# Altium footprint library National Semiconductor Amplifier.PcbLib: 108 footprints (part 5 of 7)
Each footprint in its own frame and in the unit in brackets; x right, y up, seen from the top. Pads: shape width x height; smd on the part's side, far side on the other; paste and mask are expansions set on the pad; w line width, h text height; cw(c..) or ccw(c..) is an arc to the next point about the centre after c.
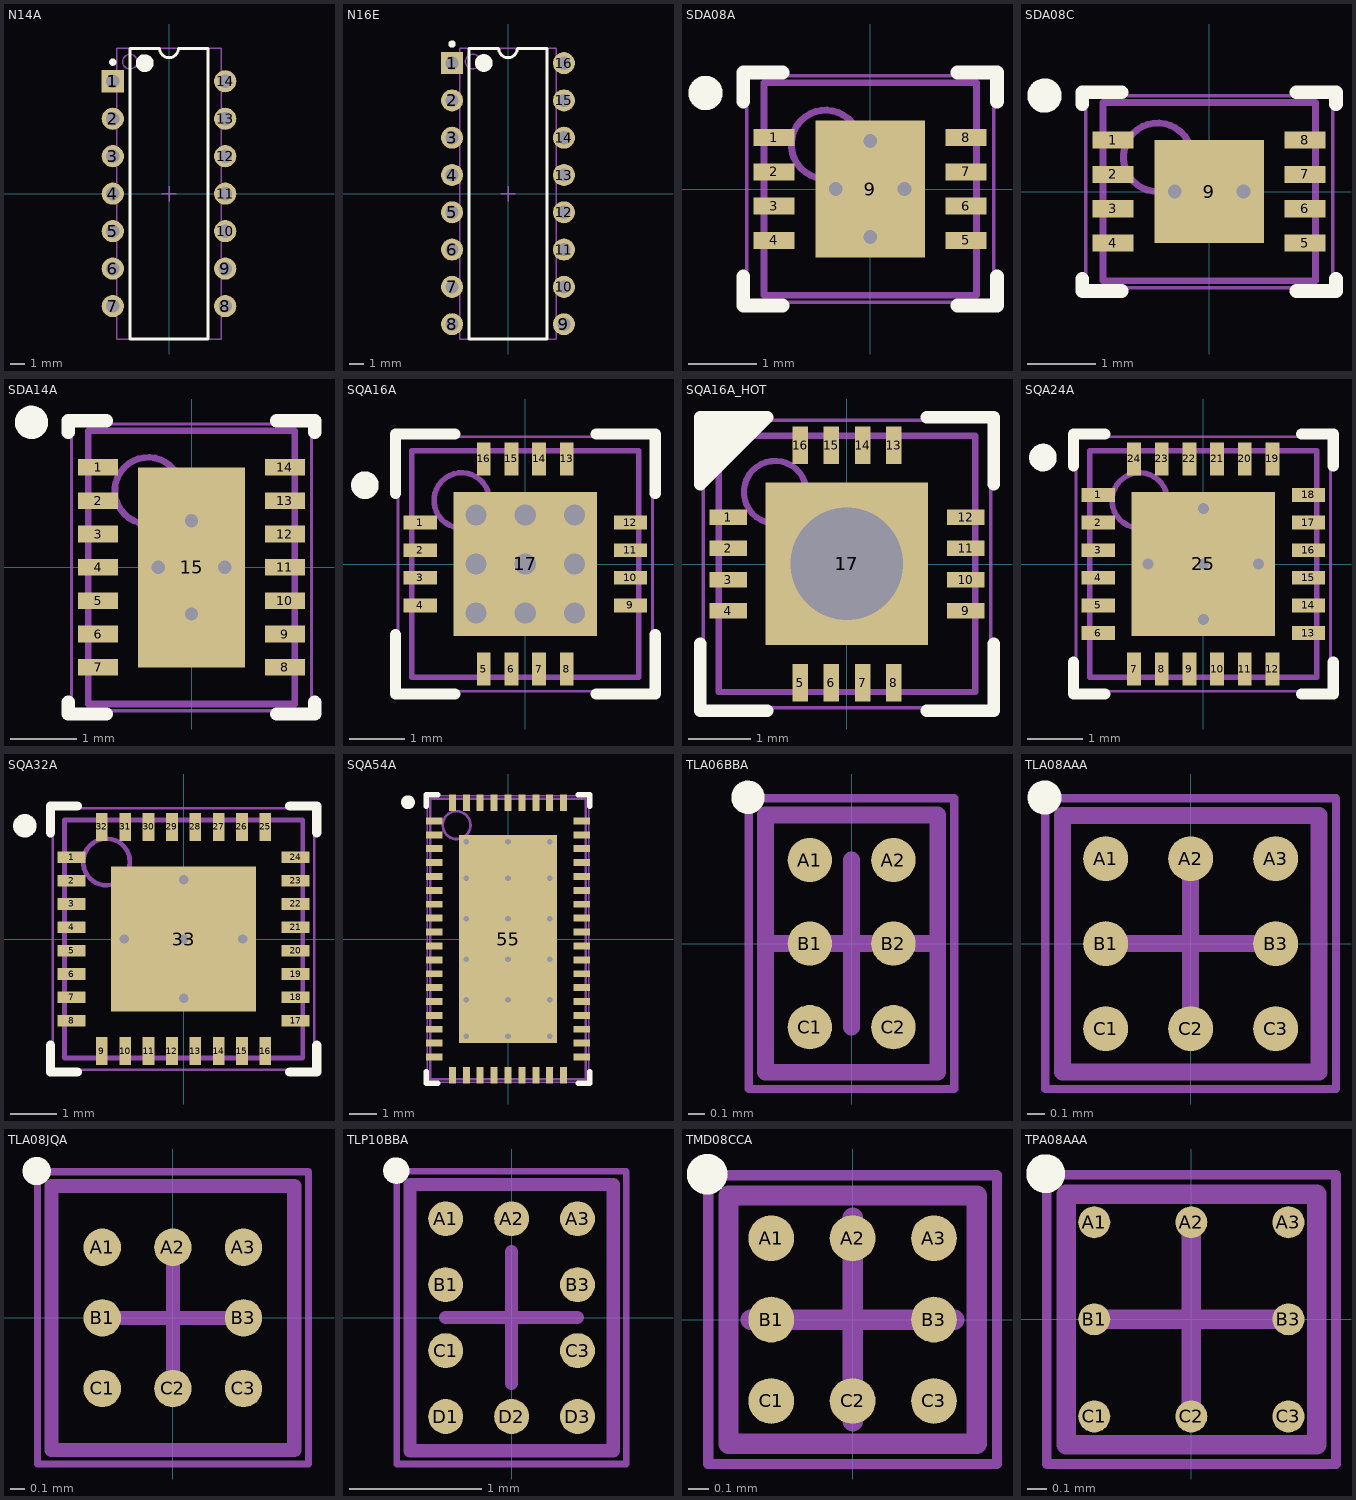
[diagram p4: the footprints below, top view; thin cyan lines are the x and y axes]

## N14A [mm] "DIP, 14-Pin, Row Spacing 7.62 mm, Pitch 2.54 mm"
height 5.08
pads (14):
  rect 1.5x1.5 hole 0.9: 1(-3.81,7.62)
  round 1.5 hole 0.9: 2(-3.81,5.08) 3(-3.81,2.54) 4(-3.81,0) 5(-3.81,-2.54) 6(-3.81,-5.08) 7(-3.81,-7.62) 8(3.81,-7.62) 9(3.81,-5.08) 10(3.81,-2.54) 11(3.81,0) 12(3.81,2.54) 13(3.81,5.08) 14(3.81,7.62)
Top Overlay:
  circle w0.25: c-3.81,8.92 r0.125
  circle w0.6: c-1.65,8.85 r0.3
  lines w0.2: -2.65,-9.85 -2.65,9.85 -0.635,9.85 ccw(c0,9.85) 0.635,9.85 2.65,9.85 2.65,-9.85 -2.65,-9.85
Mechanical 13:
  circle w0.1: c-2.65,8.95 r0.5
  lines w0.1: -3.55,-9.85 -3.55,9.85 3.55,9.85 3.55,-9.85 -3.55,-9.85
Mechanical 15:
  lines w0.1: -0.5,0 0.5,0 ; 0,-0.5 0,0.5
3D body: height 5.08, standoff 0, extent -3.55,-9.85 3.55,9.85

## N16E [mm] "DIP, 16-Pin, Row Spacing 7.62 mm, Pitch 2.54 mm"
height 4.32
pads (16):
  rect 1.5x1.5 hole 0.9: 1(-3.81,8.89)
  round 1.5 hole 0.9: 2(-3.81,6.35) 3(-3.81,3.81) 4(-3.81,1.27) 5(-3.81,-1.27) 6(-3.81,-3.81) 7(-3.81,-6.35) 8(-3.81,-8.89) 9(3.81,-8.89) 10(3.81,-6.35) 11(3.81,-3.81) 12(3.81,-1.27) 13(3.81,1.27) 14(3.81,3.81) 15(3.81,6.35) 16(3.81,8.89)
Top Overlay:
  circle w0.6: c-1.65,8.9 r0.3
  circle w0.25: c-3.81,10.19 r0.125
  lines w0.2: -2.65,-9.9 2.65,-9.9 2.65,9.9 0.635,9.9 cw(c0,9.9) -0.635,9.9 -2.65,9.9 -2.65,-9.9
Mechanical 13:
  circle w0.1: c-2.4,9 r0.5
  lines w0.1: -3.3,-9.9 3.3,-9.9 3.3,9.9 -3.3,9.9 -3.3,-9.9
Mechanical 15:
  lines w0.1: -0.5,0 0.5,0 ; 0,-0.5 0,0.5
3D body: height 4.32, standoff 0, extent -3.3,-9.9 3.3,9.9

## SDA08A [mm] "SON, 8-Leads, Body 3x3mm, Pitch 0.5mm, NSC Recommended"
height 0.8
pads (9):
  rect 0.6x0.25 smd paste-0.125 mask+0.051: 1(-1.4,0.75) 2(-1.4,0.25) 3(-1.4,-0.25) 4(-1.4,-0.75) 5(1.4,-0.75) 6(1.4,-0.25) 7(1.4,0.25) 8(1.4,0.75)
  rect 1.6x2 smd paste-0.05 mask+0.051: 9(0,0)
via -0.5,0 diameter 0.5 hole 0.2
via 0.5,0 diameter 0.5 hole 0.2
via 0,0.7 diameter 0.5 hole 0.2
via 0,-0.7 diameter 0.5 hole 0.2
Top Overlay:
  circle w0.25: c-2.4,1.4 r0.125
  lines w0.2: -1.85,-1.275 -1.85,-1.7 -1.275,-1.7 ; -1.85,1.275 -1.85,1.7 -1.275,1.7 ; 1.275,-1.7 1.85,-1.7 1.85,-1.275 ; 1.275,1.7 1.85,1.7 1.85,1.275
Top Paste:
  region: 1.2,0.875 1.2,0.625 1.9,0.625 1.9,0.875
  region: 1.2,0.375 1.2,0.125 1.9,0.125 1.9,0.375
  region: 1.2,-0.125 1.2,-0.375 1.9,-0.375 1.9,-0.125
  region: 1.2,-0.625 1.2,-0.875 1.9,-0.875 1.9,-0.625
  region: -1.9,-0.625 -1.9,-0.875 -1.2,-0.875 -1.2,-0.625
  region: -1.9,-0.125 -1.9,-0.375 -1.2,-0.375 -1.2,-0.125
  region: -1.9,0.375 -1.9,0.125 -1.2,0.125 -1.2,0.375
  region: -1.9,0.875 -1.9,0.625 -1.2,0.625 -1.2,0.875
Mechanical 13:
  circle w0.1: c-0.65,0.65 r0.5
  lines w0.1: -1.55,-1.55 1.55,-1.55 1.55,1.55 -1.55,1.55 -1.55,-1.55
Mechanical 15:
  lines w0.05: -1.8,-1.65 1.8,-1.65 1.8,1.65 -1.8,1.65 -1.8,-1.65
  lines w0.1: -0.5,0 0.5,0 ; 0,-0.5 0,0.5
3D body: height 0.8, standoff 0, extent -1.55,-1.55 1.55,1.55

## SDA08C [mm] "SON, 8-Leads, Body 2.5x3mm, Pitch 0.5mm, NSC Recommended"
height 0.8
pads (9):
  rect 0.6x0.25 smd paste-0.125 mask+0.051: 1(-1.4,0.75) 2(-1.4,0.25) 3(-1.4,-0.25) 4(-1.4,-0.75) 5(1.4,-0.75) 6(1.4,-0.25) 7(1.4,0.25) 8(1.4,0.75)
  rect 1.6x1.5 smd paste-0.05 mask+0.051: 9(0,0)
via 0.5,0 diameter 0.5 hole 0.2
via -0.5,0 diameter 0.5 hole 0.2
Top Overlay:
  circle w0.25: c-2.4,1.4 r0.125
  lines w0.2: -1.85,-1.275 -1.85,-1.45 -1.275,-1.45 ; -1.85,1.275 -1.85,1.45 -1.275,1.45 ; 1.275,-1.45 1.85,-1.45 1.85,-1.275 ; 1.275,1.45 1.85,1.45 1.85,1.275
Top Paste:
  region: -1.9,0.875 -1.9,0.625 -1.2,0.625 -1.2,0.875
  region: -1.9,0.375 -1.9,0.125 -1.2,0.125 -1.2,0.375
  region: -1.9,-0.125 -1.9,-0.375 -1.2,-0.375 -1.2,-0.125
  region: -1.9,-0.625 -1.9,-0.875 -1.2,-0.875 -1.2,-0.625
  region: 1.2,-0.625 1.2,-0.875 1.9,-0.875 1.9,-0.625
  region: 1.2,-0.125 1.2,-0.375 1.9,-0.375 1.9,-0.125
  region: 1.2,0.375 1.2,0.125 1.9,0.125 1.9,0.375
  region: 1.2,0.875 1.2,0.625 1.9,0.625 1.9,0.875
Mechanical 13:
  circle w0.1: c-0.75,0.5 r0.5
  lines w0.1: -1.55,-1.3 -1.55,1.3 1.55,1.3 1.55,-1.3 -1.55,-1.3
Mechanical 15:
  lines w0.05: -1.8,-1.4 1.8,-1.4 1.8,1.4 -1.8,1.4 -1.8,-1.4
  lines w0.1: -0.5,0 0.5,0 ; 0,-0.5 0,0.5
3D body: height 0.8, standoff 0, extent -1.549,-1.299 1.549,1.299

## SDA14A [mm] "SON, 14-Leads, Body 4x3mm, Pitch 0.5mm, NSC Recommended"
height 0.8
pads (15):
  rect 0.6x0.25 smd paste-0.125 mask+0.051: 1(-1.4,1.5) 2(-1.4,1) 3(-1.4,0.5) 4(-1.4,0) 5(-1.4,-0.5) 6(-1.4,-1) 7(-1.4,-1.5) 8(1.4,-1.5) 9(1.4,-1) 10(1.4,-0.5) 11(1.4,0) 12(1.4,0.5) 13(1.4,1) 14(1.4,1.5)
  rect 1.6x3 smd paste-0.8 mask+0.051: 15(0,0)
via -0.5,0 diameter 0.5 hole 0.2
via 0.5,0 diameter 0.5 hole 0.2
via 0,0.7 diameter 0.5 hole 0.2
via 0,-0.7 diameter 0.5 hole 0.2
Top Overlay:
  circle w0.25: c-2.4,2.175 r0.125
  lines w0.2: -1.85,-2.025 -1.85,-2.2 -1.275,-2.2 ; -1.85,2.025 -1.85,2.2 -1.275,2.2 ; 1.275,-2.2 1.85,-2.2 1.85,-2.025 ; 1.275,2.2 1.85,2.2 1.85,2.025
Top Paste:
  region: -0.7,-0.1 -0.7,-1.4 -0.1,-1.4 -0.1,-0.1
  region: -0.1,0.1 -0.1,1.4 -0.7,1.4 -0.7,0.1
  region: 0.7,0.1 0.7,1.4 0.1,1.4 0.1,0.1
  region: 0.1,-0.1 0.1,-1.4 0.7,-1.4 0.7,-0.1
  region: 1.2,1.625 1.2,1.375 1.9,1.375 1.9,1.625
  region: 1.2,1.125 1.2,0.875 1.9,0.875 1.9,1.125
  region: 1.2,0.625 1.2,0.375 1.9,0.375 1.9,0.625
  region: 1.2,0.125 1.2,-0.125 1.9,-0.125 1.9,0.125
  region: 1.2,-0.375 1.2,-0.625 1.9,-0.625 1.9,-0.375
  region: 1.2,-0.875 1.2,-1.125 1.9,-1.125 1.9,-0.875
  region: 1.2,-1.375 1.2,-1.625 1.9,-1.625 1.9,-1.375
  region: -1.9,-1.375 -1.9,-1.625 -1.2,-1.625 -1.2,-1.375
  region: -1.9,-0.875 -1.9,-1.125 -1.2,-1.125 -1.2,-0.875
  region: -1.9,-0.375 -1.9,-0.625 -1.2,-0.625 -1.2,-0.375
  region: -1.9,0.125 -1.9,-0.125 -1.2,-0.125 -1.2,0.125
  region: -1.9,0.625 -1.9,0.375 -1.2,0.375 -1.2,0.625
  region: -1.9,1.125 -1.9,0.875 -1.2,0.875 -1.2,1.125
  region: -1.9,1.625 -1.9,1.375 -1.2,1.375 -1.2,1.625
Mechanical 13:
  circle w0.1: c-0.65,1.15 r0.5
  lines w0.1: -1.55,-2.05 1.55,-2.05 1.55,2.05 -1.55,2.05 -1.55,-2.05
Mechanical 15:
  lines w0.05: -1.8,-2.15 1.8,-2.15 1.8,2.15 -1.8,2.15 -1.8,-2.15
  lines w0.1: -0.5,0 0.5,0 ; 0,-0.5 0,0.5
3D body: height 0.8, standoff 0, extent -1.55,-2.05 1.55,2.05

## SQA16A [mm] "QFN, 16-Leads, Body 4x4mm, Pitch 0.5mm, NSC Recommended"
height 0.8
pads (17):
  rect 0.6x0.25 smd paste-0.125 mask+0.051: 1(-1.9,0.75) 2(-1.9,0.25) 3(-1.9,-0.25) 4(-1.9,-0.75) 9(1.9,-0.75) 10(1.9,-0.25) 11(1.9,0.25) 12(1.9,0.75)
  rect 0.25x0.6 smd paste-0.125 mask+0.051: 5(-0.75,-1.9) 6(-0.25,-1.9) 7(0.25,-1.9) 8(0.75,-1.9) 13(0.75,1.9) 14(0.25,1.9) 15(-0.25,1.9) 16(-0.75,1.9)
  rect 2.6x2.6 smd paste-1.3 mask+0.051: 17(0,0)
via 0,0.889 diameter 0.686 hole 0.381
via -0.889,0 diameter 0.686 hole 0.381
via 0,-0.889 diameter 0.686 hole 0.381
via -0.889,-0.889 diameter 0.686 hole 0.381
via 0.889,-0.889 diameter 0.686 hole 0.381
via 0.889,0.889 diameter 0.686 hole 0.381
via -0.889,0.889 diameter 0.686 hole 0.381
via 0.889,0 diameter 0.686 hole 0.381
via 0,0 diameter 0.686 hole 0.381
Top Overlay:
  circle w0.25: c-2.9,1.425 r0.125
  lines w0.2: -2.35,-1.275 -2.35,-2.35 -1.275,-2.35 ; -2.35,1.275 -2.35,2.35 -1.275,2.35 ; 1.275,-2.35 2.35,-2.35 2.35,-1.275 ; 1.275,2.35 2.35,2.35 2.35,1.275
Top Paste:
  rectangle: 0.1,-1.2 1.2,-0.1
  region: -0.1,-0.1 -1.2,-0.1 -1.2,-1.2 -0.1,-1.2
  region: -0.1,1.2 -1.2,1.2 -1.2,0.1 -0.1,0.1
  rectangle: 0.1,0.1 1.2,1.2
  rectangle: -2.4,0.625 -1.7,0.875
  rectangle: -2.4,0.125 -1.7,0.375
  rectangle: -2.4,-0.375 -1.7,-0.125
  rectangle: -2.4,-0.875 -1.7,-0.625
  region: 2.4,0.875 1.7,0.875 1.7,0.625 2.4,0.625
  region: 2.4,0.375 1.7,0.375 1.7,0.125 2.4,0.125
  region: 2.4,-0.125 1.7,-0.125 1.7,-0.375 2.4,-0.375
  region: 2.4,-0.625 1.7,-0.625 1.7,-0.875 2.4,-0.875
  region: -0.875,2.4 -0.875,1.7 -0.625,1.7 -0.625,2.4
  region: -0.375,2.4 -0.375,1.7 -0.125,1.7 -0.125,2.4
  region: 0.125,2.4 0.125,1.7 0.375,1.7 0.375,2.4
  region: 0.625,2.4 0.625,1.7 0.875,1.7 0.875,2.4
  region: 0.875,-2.4 0.875,-1.7 0.625,-1.7 0.625,-2.4
  region: 0.375,-2.4 0.375,-1.7 0.125,-1.7 0.125,-2.4
  region: -0.125,-2.4 -0.125,-1.7 -0.375,-1.7 -0.375,-2.4
  region: -0.625,-2.4 -0.625,-1.7 -0.875,-1.7 -0.875,-2.4
Mechanical 13:
  circle w0.1: c-1.15,1.15 r0.5
  lines w0.1: -2.05,-2.05 -2.05,2.05 2.05,2.05 2.05,-2.05 -2.05,-2.05
Mechanical 15:
  lines w0.05: -2.3,-2.3 -2.3,2.3 2.3,2.3 2.3,-2.3 -2.3,-2.3
  lines w0.1: -0.5,0 0.5,0 ; 0,-0.5 0,0.5
3D body: height 0.8, standoff 0, extent -2.05,-2.05 2.05,2.05

## SQA16A_HOT [mm] "QFN, 16-Leads, Body 4x4mm, Pitch 0.5mm, NSC Recommended"
height 0.8
pads (18):
  rect 0.6x0.25 smd paste-0.125 mask+0.051: 1(-1.9,0.75) 2(-1.9,0.25) 3(-1.9,-0.25) 4(-1.9,-0.75) 9(1.9,-0.75) 10(1.9,-0.25) 11(1.9,0.25) 12(1.9,0.75)
  rect 0.25x0.6 smd paste-0.125 mask+0.051: 5(-0.75,-1.9) 6(-0.25,-1.9) 7(0.25,-1.9) 8(0.75,-1.9) 13(0.75,1.9) 14(0.25,1.9) 15(-0.25,1.9) 16(-0.75,1.9)
  rect 2.6x2.6 smd paste-1.3 mask+0.051: 17(0,0)
  round 2.6 hole 1.8: 17(0,0)
Top Overlay:
  region: -2.35,2.35 -2.35,1.275 -1.275,2.35
  lines w0.2: -2.35,-1.275 -2.35,-2.35 -1.275,-2.35 ; 1.275,-2.35 2.35,-2.35 2.35,-1.275 ; 1.275,2.35 2.35,2.35 2.35,1.275 ; -1.275,2.35 -2.35,1.275 -2.35,2.35 -1.275,2.35 ; -1.275,2.35 -1.275,2.35
Top Paste:
  region: -0.625,-2.4 -0.625,-1.7 -0.875,-1.7 -0.875,-2.4
  region: -0.125,-2.4 -0.125,-1.7 -0.375,-1.7 -0.375,-2.4
  region: 0.375,-2.4 0.375,-1.7 0.125,-1.7 0.125,-2.4
  region: 0.875,-2.4 0.875,-1.7 0.625,-1.7 0.625,-2.4
  region: 0.625,2.4 0.625,1.7 0.875,1.7 0.875,2.4
  region: 0.125,2.4 0.125,1.7 0.375,1.7 0.375,2.4
  region: -0.375,2.4 -0.375,1.7 -0.125,1.7 -0.125,2.4
  region: -0.875,2.4 -0.875,1.7 -0.625,1.7 -0.625,2.4
  region: 2.4,-0.625 1.7,-0.625 1.7,-0.875 2.4,-0.875
  region: 2.4,-0.125 1.7,-0.125 1.7,-0.375 2.4,-0.375
  region: 2.4,0.375 1.7,0.375 1.7,0.125 2.4,0.125
  region: 2.4,0.875 1.7,0.875 1.7,0.625 2.4,0.625
  rectangle: -2.4,-0.875 -1.7,-0.625
  rectangle: -2.4,-0.375 -1.7,-0.125
  rectangle: -2.4,0.125 -1.7,0.375
  rectangle: -2.4,0.625 -1.7,0.875
  rectangle: 0.1,0.1 1.2,1.2
  region: -0.1,1.2 -1.2,1.2 -1.2,0.1 -0.1,0.1
  region: -0.1,-0.1 -1.2,-0.1 -1.2,-1.2 -0.1,-1.2
  rectangle: 0.1,-1.2 1.2,-0.1
Mechanical 13:
  circle w0.1: c-1.15,1.15 r0.5
  lines w0.1: -2.05,-2.05 2.05,-2.05 2.05,2.05 -2.05,2.05 -2.05,-2.05
Mechanical 15:
  lines w0.05: -2.3,-2.3 2.3,-2.3 2.3,2.3 -2.3,2.3 -2.3,-2.3
  lines w0.1: -0.5,0 0.5,0 ; 0,-0.5 0,0.5
3D body: height 0.8, standoff 0, extent -2.05,-2.05 2.05,2.05

## SQA24A [mm] "QFN, 24-Leads, Body 4x4mm, Pitch 0.5mm, NSC Recommended"
height 0.8
pads (25):
  rect 0.6x0.25 smd paste-0.125 mask+0.051: 1(-1.9,1.25) 2(-1.9,0.75) 3(-1.9,0.25) 4(-1.9,-0.25) 5(-1.9,-0.75) 6(-1.9,-1.25) 13(1.9,-1.25) 14(1.9,-0.75) 15(1.9,-0.25) 16(1.9,0.25) 17(1.9,0.75) 18(1.9,1.25)
  rect 0.25x0.6 smd paste-0.125 mask+0.051: 7(-1.25,-1.9) 8(-0.75,-1.9) 9(-0.25,-1.9) 10(0.25,-1.9) 11(0.75,-1.9) 12(1.25,-1.9) 19(1.25,1.9) 20(0.75,1.9) 21(0.25,1.9) 22(-0.25,1.9) 23(-0.75,1.9) 24(-1.25,1.9)
  rect 2.6x2.6 smd paste-1.3 mask+0.051: 25(0,0)
via 0,0 diameter 0.5 hole 0.2
via 1,0 diameter 0.5 hole 0.2
via -1,0 diameter 0.5 hole 0.2
via 0,1 diameter 0.5 hole 0.2
via 0,-1 diameter 0.5 hole 0.2
Top Overlay:
  circle w0.25: c-2.9,1.925 r0.125
  lines w0.2: -2.35,-1.775 -2.35,-2.35 -1.775,-2.35 ; -2.35,1.775 -2.35,2.35 -1.775,2.35 ; 1.775,-2.35 2.35,-2.35 2.35,-1.775 ; 1.775,2.35 2.35,2.35 2.35,1.775
Top Paste:
  region: 1.125,2.4 1.125,1.7 1.375,1.7 1.375,2.4
  region: 0.625,2.4 0.625,1.7 0.875,1.7 0.875,2.4
  region: 0.125,2.4 0.125,1.7 0.375,1.7 0.375,2.4
  region: -0.375,2.4 -0.375,1.7 -0.125,1.7 -0.125,2.4
  region: -0.875,2.4 -0.875,1.7 -0.625,1.7 -0.625,2.4
  region: -1.375,2.4 -1.375,1.7 -1.125,1.7 -1.125,2.4
  region: 2.4,-1.125 1.7,-1.125 1.7,-1.375 2.4,-1.375
  region: 2.4,-0.625 1.7,-0.625 1.7,-0.875 2.4,-0.875
  region: 2.4,-0.125 1.7,-0.125 1.7,-0.375 2.4,-0.375
  region: 2.4,0.375 1.7,0.375 1.7,0.125 2.4,0.125
  region: 2.4,0.875 1.7,0.875 1.7,0.625 2.4,0.625
  region: 2.4,1.375 1.7,1.375 1.7,1.125 2.4,1.125
  region: -1.125,-2.4 -1.125,-1.7 -1.375,-1.7 -1.375,-2.4
  region: -0.625,-2.4 -0.625,-1.7 -0.875,-1.7 -0.875,-2.4
  region: -0.125,-2.4 -0.125,-1.7 -0.375,-1.7 -0.375,-2.4
  region: 0.375,-2.4 0.375,-1.7 0.125,-1.7 0.125,-2.4
  region: 0.875,-2.4 0.875,-1.7 0.625,-1.7 0.625,-2.4
  region: 1.375,-2.4 1.375,-1.7 1.125,-1.7 1.125,-2.4
  rectangle: -2.4,-1.375 -1.7,-1.125
  rectangle: -2.4,-0.875 -1.7,-0.625
  rectangle: -2.4,-0.375 -1.7,-0.125
  rectangle: -2.4,0.125 -1.7,0.375
  rectangle: -2.4,0.625 -1.7,0.875
  rectangle: -2.4,1.125 -1.7,1.375
  rectangle: 0.1,-1.2 1.2,-0.1
  region: -0.1,-0.1 -1.2,-0.1 -1.2,-1.2 -0.1,-1.2
  region: -0.1,1.2 -1.2,1.2 -1.2,0.1 -0.1,0.1
  rectangle: 0.1,0.1 1.2,1.2
Mechanical 13:
  circle w0.1: c-1.15,1.15 r0.5
  lines w0.1: -2.05,-2.05 -2.05,2.05 2.05,2.05 2.05,-2.05 -2.05,-2.05
Mechanical 15:
  lines w0.05: -2.3,-2.3 -2.3,2.3 2.3,2.3 2.3,-2.3 -2.3,-2.3
  lines w0.1: -0.5,0 0.5,0 ; 0,-0.5 0,0.5
3D body: height 0.8, standoff 0, extent -2.05,-2.05 2.05,2.05

## SQA32A [mm] "QFN, 32-Leads, Body 5x5mm, Pitch 0.5mm, NSC Recommended"
height 0.8
pads (33):
  rect 0.6x0.25 smd paste-0.125 mask+0.051: 1(-2.4,1.75) 2(-2.4,1.25) 3(-2.4,0.75) 4(-2.4,0.25) 5(-2.4,-0.25) 6(-2.4,-0.75) 7(-2.4,-1.25) 8(-2.4,-1.75) 17(2.4,-1.75) 18(2.4,-1.25) 19(2.4,-0.75) 20(2.4,-0.25) 21(2.4,0.25) 22(2.4,0.75) 23(2.4,1.25) 24(2.4,1.75)
  rect 0.25x0.6 smd paste-0.125 mask+0.051: 9(-1.75,-2.4) 10(-1.25,-2.4) 11(-0.75,-2.4) 12(-0.25,-2.4) 13(0.25,-2.4) 14(0.75,-2.4) 15(1.25,-2.4) 16(1.75,-2.4) 25(1.75,2.4) 26(1.25,2.4) 27(0.75,2.4) 28(0.25,2.4) 29(-0.25,2.4) 30(-0.75,2.4) 31(-1.25,2.4) 32(-1.75,2.4)
  rect 3.1x3.1 smd paste-1.55 mask+0.051: 33(0,0)
via 0,1.27 diameter 0.5 hole 0.2
via -1.27,0 diameter 0.5 hole 0.2
via 0,0 diameter 0.5 hole 0.2
via 1.27,0 diameter 0.5 hole 0.2
via 0,-1.27 diameter 0.5 hole 0.2
Top Overlay:
  circle w0.25: c-3.4,2.425 r0.125
  lines w0.2: -2.85,-2.275 -2.85,-2.85 -2.275,-2.85 ; -2.85,2.275 -2.85,2.85 -2.275,2.85 ; 2.275,-2.85 2.85,-2.85 2.85,-2.275 ; 2.275,2.85 2.85,2.85 2.85,2.275
Top Paste:
  region: 1.625,2.9 1.625,2.2 1.875,2.2 1.875,2.9
  region: 1.125,2.9 1.125,2.2 1.375,2.2 1.375,2.9
  region: 0.625,2.9 0.625,2.2 0.875,2.2 0.875,2.9
  region: 0.125,2.9 0.125,2.2 0.375,2.2 0.375,2.9
  region: -0.375,2.9 -0.375,2.2 -0.125,2.2 -0.125,2.9
  region: -0.875,2.9 -0.875,2.2 -0.625,2.2 -0.625,2.9
  region: -1.375,2.9 -1.375,2.2 -1.125,2.2 -1.125,2.9
  region: -1.875,2.9 -1.875,2.2 -1.625,2.2 -1.625,2.9
  region: 2.9,-1.625 2.2,-1.625 2.2,-1.875 2.9,-1.875
  region: 2.9,-1.125 2.2,-1.125 2.2,-1.375 2.9,-1.375
  region: 2.9,-0.625 2.2,-0.625 2.2,-0.875 2.9,-0.875
  region: 2.9,-0.125 2.2,-0.125 2.2,-0.375 2.9,-0.375
  region: 2.9,0.375 2.2,0.375 2.2,0.125 2.9,0.125
  region: 2.9,0.875 2.2,0.875 2.2,0.625 2.9,0.625
  region: 2.9,1.375 2.2,1.375 2.2,1.125 2.9,1.125
  region: 2.9,1.875 2.2,1.875 2.2,1.625 2.9,1.625
  region: -1.625,-2.9 -1.625,-2.2 -1.875,-2.2 -1.875,-2.9
  region: -1.125,-2.9 -1.125,-2.2 -1.375,-2.2 -1.375,-2.9
  region: -0.625,-2.9 -0.625,-2.2 -0.875,-2.2 -0.875,-2.9
  region: -0.125,-2.9 -0.125,-2.2 -0.375,-2.2 -0.375,-2.9
  region: 0.375,-2.9 0.375,-2.2 0.125,-2.2 0.125,-2.9
  region: 0.875,-2.9 0.875,-2.2 0.625,-2.2 0.625,-2.9
  region: 1.375,-2.9 1.375,-2.2 1.125,-2.2 1.125,-2.9
  region: 1.875,-2.9 1.875,-2.2 1.625,-2.2 1.625,-2.9
  rectangle: -2.9,-1.875 -2.2,-1.625
  rectangle: -2.9,-1.375 -2.2,-1.125
  rectangle: -2.9,-0.875 -2.2,-0.625
  rectangle: -2.9,-0.375 -2.2,-0.125
  rectangle: -2.9,0.125 -2.2,0.375
  rectangle: -2.9,0.625 -2.2,0.875
  rectangle: -2.9,1.125 -2.2,1.375
  rectangle: -2.9,1.625 -2.2,1.875
  rectangle: 0.1,0.1 1.4,1.4
  region: -0.1,1.4 -1.4,1.4 -1.4,0.1 -0.1,0.1
  region: -0.1,-0.1 -1.4,-0.1 -1.4,-1.4 -0.1,-1.4
  rectangle: 0.1,-1.4 1.4,-0.1
Mechanical 13:
  circle w0.1: c-1.65,1.65 r0.5
  lines w0.1: -2.55,-2.55 -2.55,2.55 2.55,2.55 2.55,-2.55 -2.55,-2.55
Mechanical 15:
  lines w0.05: -2.8,-2.8 -2.8,2.8 2.8,2.8 2.8,-2.8 -2.8,-2.8
  lines w0.1: -0.5,0 0.5,0 ; 0,-0.5 0,0.5
3D body: height 0.8, standoff 0, extent -2.55,-2.55 2.55,2.55

## SQA54A [mm] "PQFN, 54-Leads, (18x9 pads), Body 10x10mm, Pitch 0.5mm, NSC Recommended"
height 0.8
pads (55):
  rect 0.6x0.25 smd paste-0.125 mask+0.051: 1(-2.65,4.25) 2(-2.65,3.75) 3(-2.65,3.25) 4(-2.65,2.75) 5(-2.65,2.25) 6(-2.65,1.75) 7(-2.65,1.25) 8(-2.65,0.75) 9(-2.65,0.25) 10(-2.65,-0.25) 11(-2.65,-0.75) 12(-2.65,-1.25) 13(-2.65,-1.75) 14(-2.65,-2.25) 15(-2.65,-2.75) 16(-2.65,-3.25) 17(-2.65,-3.75) 18(-2.65,-4.25) 28(2.65,-4.25) 29(2.65,-3.75) 30(2.65,-3.25) 31(2.65,-2.75) 32(2.65,-2.25) 33(2.65,-1.75) 34(2.65,-1.25) 35(2.65,-0.75) 36(2.65,-0.25) 37(2.65,0.25) 38(2.65,0.75) 39(2.65,1.25) 40(2.65,1.75) 41(2.65,2.25) 42(2.65,2.75) 43(2.65,3.25) 44(2.65,3.75) 45(2.65,4.25)
  rect 0.25x0.6 smd paste-0.125 mask+0.051: 19(-2,-4.9) 20(-1.5,-4.9) 21(-1,-4.9) 22(-0.5,-4.9) 23(0,-4.9) 24(0.5,-4.9) 25(1,-4.9) 26(1.5,-4.9) 27(2,-4.9) 46(2,4.9) 47(1.5,4.9) 48(1,4.9) 49(0.5,4.9) 50(0,4.9) 51(-0.5,4.9) 52(-1,4.9) 53(-1.5,4.9) 54(-2,4.9)
  rect 3.51x7.5 smd paste-1.755 mask+0.051: 55(0,0)
via 1.5,0.73 diameter 0.5 hole 0.2
via 0,0.73 diameter 0.5 hole 0.2
via 0,-0.73 diameter 0.5 hole 0.2
via 1.5,-0.73 diameter 0.5 hole 0.2
via -1.5,0.73 diameter 0.5 hole 0.2
via -1.5,-0.73 diameter 0.5 hole 0.2
via -1.5,2.19 diameter 0.5 hole 0.2
via 0,2.19 diameter 0.5 hole 0.2
via 1.5,2.19 diameter 0.5 hole 0.2
via -1.5,3.5 diameter 0.5 hole 0.2
via 0,3.5 diameter 0.5 hole 0.2
via 1.5,3.5 diameter 0.5 hole 0.2
via 1.5,-2.19 diameter 0.5 hole 0.2
via 0,-2.19 diameter 0.5 hole 0.2
via -1.5,-2.19 diameter 0.5 hole 0.2
via 1.5,-3.5 diameter 0.5 hole 0.2
via 0,-3.5 diameter 0.5 hole 0.2
via -1.5,-3.5 diameter 0.5 hole 0.2
Top Overlay:
  circle w0.25: c-3.6,4.925 r0.125
  lines w0.2: -2.95,-4.775 -2.95,-5.2 -2.525,-5.2 ; -2.95,4.775 -2.95,5.2 -2.525,5.2 ; 2.525,-5.2 2.95,-5.2 2.95,-4.775 ; 2.525,5.2 2.95,5.2 2.95,4.775
Top Paste:
  rectangle: 1.875,-5.4 2.125,-4.7
  rectangle: 1.375,-5.4 1.625,-4.7
  rectangle: 0.875,-5.4 1.125,-4.7
  rectangle: 0.375,-5.4 0.625,-4.7
  rectangle: -0.125,-5.4 0.125,-4.7
  rectangle: -0.625,-5.4 -0.375,-4.7
  rectangle: -1.125,-5.4 -0.875,-4.7
  rectangle: -1.625,-5.4 -1.375,-4.7
  rectangle: -2.125,-5.4 -1.875,-4.7
  region: -3.15,-4.125 -3.15,-4.375 -2.45,-4.375 -2.45,-4.125
  region: -3.15,-3.625 -3.15,-3.875 -2.45,-3.875 -2.45,-3.625
  region: -3.15,-3.125 -3.15,-3.375 -2.45,-3.375 -2.45,-3.125
  region: -3.15,-2.625 -3.15,-2.875 -2.45,-2.875 -2.45,-2.625
  region: -3.15,-2.125 -3.15,-2.375 -2.45,-2.375 -2.45,-2.125
  region: -3.15,-1.625 -3.15,-1.875 -2.45,-1.875 -2.45,-1.625
  region: -3.15,-1.125 -3.15,-1.375 -2.45,-1.375 -2.45,-1.125
  region: -3.15,-0.625 -3.15,-0.875 -2.45,-0.875 -2.45,-0.625
  region: -3.15,-0.125 -3.15,-0.375 -2.45,-0.375 -2.45,-0.125
  region: -3.15,0.375 -3.15,0.125 -2.45,0.125 -2.45,0.375
  region: -3.15,0.875 -3.15,0.625 -2.45,0.625 -2.45,0.875
  region: -3.15,1.375 -3.15,1.125 -2.45,1.125 -2.45,1.375
  region: -3.15,1.875 -3.15,1.625 -2.45,1.625 -2.45,1.875
  region: -3.15,2.375 -3.15,2.125 -2.45,2.125 -2.45,2.375
  region: -3.15,2.875 -3.15,2.625 -2.45,2.625 -2.45,2.875
  region: -3.15,3.375 -3.15,3.125 -2.45,3.125 -2.45,3.375
  region: -3.15,3.875 -3.15,3.625 -2.45,3.625 -2.45,3.875
  region: -3.15,4.375 -3.15,4.125 -2.45,4.125 -2.45,4.375
  region: 2.125,5.4 1.875,5.4 1.875,4.7 2.125,4.7
  region: 1.625,5.4 1.375,5.4 1.375,4.7 1.625,4.7
  region: 1.125,5.4 0.875,5.4 0.875,4.7 1.125,4.7
  region: 0.625,5.4 0.375,5.4 0.375,4.7 0.625,4.7
  region: 0.125,5.4 -0.125,5.4 -0.125,4.7 0.125,4.7
  region: -0.375,5.4 -0.625,5.4 -0.625,4.7 -0.375,4.7
  region: -0.875,5.4 -1.125,5.4 -1.125,4.7 -0.875,4.7
  region: -1.375,5.4 -1.625,5.4 -1.625,4.7 -1.375,4.7
  region: -1.875,5.4 -2.125,5.4 -2.125,4.7 -1.875,4.7
  region: 3.15,-4.375 3.15,-4.125 2.45,-4.125 2.45,-4.375
  region: 3.15,-3.875 3.15,-3.625 2.45,-3.625 2.45,-3.875
  region: 3.15,-3.375 3.15,-3.125 2.45,-3.125 2.45,-3.375
  region: 3.15,-2.875 3.15,-2.625 2.45,-2.625 2.45,-2.875
  region: 3.15,-2.375 3.15,-2.125 2.45,-2.125 2.45,-2.375
  region: 3.15,-1.875 3.15,-1.625 2.45,-1.625 2.45,-1.875
  region: 3.15,-1.375 3.15,-1.125 2.45,-1.125 2.45,-1.375
  region: 3.15,-0.875 3.15,-0.625 2.45,-0.625 2.45,-0.875
  region: 3.15,-0.375 3.15,-0.125 2.45,-0.125 2.45,-0.375
  region: 3.15,0.125 3.15,0.375 2.45,0.375 2.45,0.125
  region: 3.15,0.625 3.15,0.875 2.45,0.875 2.45,0.625
  region: 3.15,1.125 3.15,1.375 2.45,1.375 2.45,1.125
  region: 3.15,1.625 3.15,1.875 2.45,1.875 2.45,1.625
  region: 3.15,2.125 3.15,2.375 2.45,2.375 2.45,2.125
  region: 3.15,2.625 3.15,2.875 2.45,2.875 2.45,2.625
  region: 3.15,3.125 3.15,3.375 2.45,3.375 2.45,3.125
  region: 3.15,3.625 3.15,3.875 2.45,3.875 2.45,3.625
  region: 3.15,4.125 3.15,4.375 2.45,4.375 2.45,4.125
  rectangle: 0.1,-0.63 1.4,0.63
  region: -0.1,0.63 -1.4,0.63 -1.4,-0.63 -0.1,-0.63
  region: -0.1,2.09 -1.4,2.09 -1.4,0.83 -0.1,0.83
  rectangle: 0.1,0.83 1.4,2.09
  region: -0.1,3.55 -1.4,3.55 -1.4,2.29 -0.1,2.29
  rectangle: 0.1,2.29 1.4,3.55
  rectangle: 0.1,-2.09 1.4,-0.83
  region: -0.1,-0.83 -1.4,-0.83 -1.4,-2.09 -0.1,-2.09
  rectangle: 0.1,-3.55 1.4,-2.29
  region: -0.1,-2.29 -1.4,-2.29 -1.4,-3.55 -0.1,-3.55
Mechanical 13:
  circle w0.1: c-1.85,4.1 r0.5
  lines w0.1: -2.8,-5.05 -2.8,5.05 2.8,5.05 2.8,-5.05 -2.8,-5.05
Mechanical 15:
  lines w0.05: -2.9,-5.15 -2.9,5.15 2.9,5.15 2.9,-5.15 -2.9,-5.15
  lines w0.1: -0.5,0 0.5,0 ; 0,-0.5 0,0.5
3D body: height 0.8, standoff 0, extent -2.799,-5.049 2.799,5.049

## TLA06BBA [mm] "Micro SMD, 6-Leads, Body 1.54x1.03mm, Pitch 0.5mm, NSC Recommended"
height 0.68
pads (6):
  round 0.265 smd paste-0.132 mask+0.05: A1(-0.25,0.5) A2(0.25,0.5) B1(-0.25,0) B2(0.25,0) C1(-0.25,-0.5) C2(0.25,-0.5)
Top Overlay:
  circle w0.1: c-0.62,0.875 r0.05
Top Paste:
  circle w0.05: c-0.325,0.425 r0.025
  circle w0.05: c-0.175,0.575 r0.025
  circle w0.05: c-0.175,0.425 r0.025
  circle w0.05: c-0.325,0.575 r0.025
  circle w0.05: c0.175,0.425 r0.025
  circle w0.05: c0.325,0.575 r0.025
  circle w0.05: c0.325,0.425 r0.025
  circle w0.05: c0.175,0.575 r0.025
  circle w0.05: c-0.325,-0.075 r0.025
  circle w0.05: c-0.175,0.075 r0.025
  circle w0.05: c-0.175,-0.075 r0.025
  circle w0.05: c-0.325,0.075 r0.025
  circle w0.05: c0.175,-0.075 r0.025
  circle w0.05: c0.325,0.075 r0.025
  circle w0.05: c0.325,-0.075 r0.025
  circle w0.05: c0.175,0.075 r0.025
  circle w0.05: c-0.325,-0.575 r0.025
  circle w0.05: c-0.175,-0.425 r0.025
  circle w0.05: c-0.175,-0.575 r0.025
  circle w0.05: c-0.325,-0.425 r0.025
  circle w0.05: c0.175,-0.575 r0.025
  circle w0.05: c0.325,-0.425 r0.025
  circle w0.05: c0.325,-0.575 r0.025
  circle w0.05: c0.175,-0.425 r0.025
  region: -0.325,0.575 -0.325,0.425 -0.175,0.425 -0.175,0.575
  region: -0.325,0.425 -0.325,0.575 -0.375,0.575 -0.375,0.425
  rectangle: -0.325,0.575 -0.175,0.625
  region: -0.175,0.575 -0.175,0.425 -0.125,0.425 -0.125,0.575
  region: -0.175,0.425 -0.325,0.425 -0.325,0.375 -0.175,0.375
  region: 0.175,0.575 0.175,0.425 0.325,0.425 0.325,0.575
  region: 0.175,0.425 0.175,0.575 0.125,0.575 0.125,0.425
  rectangle: 0.175,0.575 0.325,0.625
  region: 0.325,0.575 0.325,0.425 0.375,0.425 0.375,0.575
  region: 0.325,0.425 0.175,0.425 0.175,0.375 0.325,0.375
  region: -0.325,0.075 -0.325,-0.075 -0.175,-0.075 -0.175,0.075
  region: -0.325,-0.075 -0.325,0.075 -0.375,0.075 -0.375,-0.075
  rectangle: -0.325,0.075 -0.175,0.125
  region: -0.175,0.075 -0.175,-0.075 -0.125,-0.075 -0.125,0.075
  region: -0.175,-0.075 -0.325,-0.075 -0.325,-0.125 -0.175,-0.125
  region: 0.175,0.075 0.175,-0.075 0.325,-0.075 0.325,0.075
  region: 0.175,-0.075 0.175,0.075 0.125,0.075 0.125,-0.075
  rectangle: 0.175,0.075 0.325,0.125
  region: 0.325,0.075 0.325,-0.075 0.375,-0.075 0.375,0.075
  region: 0.325,-0.075 0.175,-0.075 0.175,-0.125 0.325,-0.125
  region: -0.325,-0.425 -0.325,-0.575 -0.175,-0.575 -0.175,-0.425
  region: -0.325,-0.575 -0.325,-0.425 -0.375,-0.425 -0.375,-0.575
  rectangle: -0.325,-0.425 -0.175,-0.375
  region: -0.175,-0.425 -0.175,-0.575 -0.125,-0.575 -0.125,-0.425
  region: -0.175,-0.575 -0.325,-0.575 -0.325,-0.625 -0.175,-0.625
  region: 0.175,-0.425 0.175,-0.575 0.325,-0.575 0.325,-0.425
  region: 0.175,-0.575 0.175,-0.425 0.125,-0.425 0.125,-0.575
  rectangle: 0.175,-0.425 0.325,-0.375
  region: 0.325,-0.425 0.325,-0.575 0.375,-0.575 0.375,-0.425
  region: 0.325,-0.575 0.175,-0.575 0.175,-0.625 0.325,-0.625
Mechanical 13:
  lines w0.1: -0.515,-0.77 -0.515,0.77 0.515,0.77 0.515,-0.77 -0.515,-0.77
Mechanical 15:
  lines w0.05: -0.615,-0.87 -0.615,0.87 0.615,0.87 0.615,-0.87 -0.615,-0.87
  lines w0.1: -0.5,0 0.5,0 ; 0,-0.5 0,0.5
3D body: height 0.68, standoff 0, extent -0.515,-0.77 0.515,0.77

## TLA08AAA [mm] "Micro SMD, 8-Leads, Body 1.52x1.52mm, Pitch 0.5mm, NSC Recommended"
height 0.68
pads (8):
  round 0.265 smd paste-0.132 mask+0.05: A1(-0.5,0.5) A2(0,0.5) A3(0.5,0.5) B1(-0.5,0) B3(0.5,0) C1(-0.5,-0.5) C2(0,-0.5) C3(0.5,-0.5)
Top Overlay:
  circle w0.1: c-0.86,0.86 r0.05
Top Paste:
  circle w0.05: c0.425,-0.425 r0.025
  circle w0.05: c0.575,-0.575 r0.025
  circle w0.05: c0.575,-0.425 r0.025
  circle w0.05: c0.425,-0.575 r0.025
  circle w0.05: c-0.075,-0.425 r0.025
  circle w0.05: c0.075,-0.575 r0.025
  circle w0.05: c0.075,-0.425 r0.025
  circle w0.05: c-0.075,-0.575 r0.025
  circle w0.05: c-0.575,-0.425 r0.025
  circle w0.05: c-0.425,-0.575 r0.025
  circle w0.05: c-0.425,-0.425 r0.025
  circle w0.05: c-0.575,-0.575 r0.025
  circle w0.05: c0.425,0.075 r0.025
  circle w0.05: c0.575,-0.075 r0.025
  circle w0.05: c0.575,0.075 r0.025
  circle w0.05: c0.425,-0.075 r0.025
  circle w0.05: c-0.575,0.075 r0.025
  circle w0.05: c-0.425,-0.075 r0.025
  circle w0.05: c-0.425,0.075 r0.025
  circle w0.05: c-0.575,-0.075 r0.025
  circle w0.05: c0.425,0.575 r0.025
  circle w0.05: c0.575,0.425 r0.025
  circle w0.05: c0.575,0.575 r0.025
  circle w0.05: c0.425,0.425 r0.025
  circle w0.05: c-0.075,0.575 r0.025
  circle w0.05: c0.075,0.425 r0.025
  circle w0.05: c0.075,0.575 r0.025
  circle w0.05: c-0.075,0.425 r0.025
  circle w0.05: c-0.575,0.575 r0.025
  circle w0.05: c-0.425,0.425 r0.025
  circle w0.05: c-0.425,0.575 r0.025
  circle w0.05: c-0.575,0.425 r0.025
  region: 0.575,-0.575 0.425,-0.575 0.425,-0.625 0.575,-0.625
  region: 0.575,-0.425 0.575,-0.575 0.625,-0.575 0.625,-0.425
  rectangle: 0.425,-0.425 0.575,-0.375
  region: 0.425,-0.575 0.425,-0.425 0.375,-0.425 0.375,-0.575
  region: 0.425,-0.425 0.425,-0.575 0.575,-0.575 0.575,-0.425
  region: 0.075,-0.575 -0.075,-0.575 -0.075,-0.625 0.075,-0.625
  region: 0.075,-0.425 0.075,-0.575 0.125,-0.575 0.125,-0.425
  rectangle: -0.075,-0.425 0.075,-0.375
  region: -0.075,-0.575 -0.075,-0.425 -0.125,-0.425 -0.125,-0.575
  region: -0.075,-0.425 -0.075,-0.575 0.075,-0.575 0.075,-0.425
  region: -0.425,-0.575 -0.575,-0.575 -0.575,-0.625 -0.425,-0.625
  region: -0.425,-0.425 -0.425,-0.575 -0.375,-0.575 -0.375,-0.425
  rectangle: -0.575,-0.425 -0.425,-0.375
  region: -0.575,-0.575 -0.575,-0.425 -0.625,-0.425 -0.625,-0.575
  region: -0.575,-0.425 -0.575,-0.575 -0.425,-0.575 -0.425,-0.425
  region: 0.575,-0.075 0.425,-0.075 0.425,-0.125 0.575,-0.125
  region: 0.575,0.075 0.575,-0.075 0.625,-0.075 0.625,0.075
  rectangle: 0.425,0.075 0.575,0.125
  region: 0.425,-0.075 0.425,0.075 0.375,0.075 0.375,-0.075
  region: 0.425,0.075 0.425,-0.075 0.575,-0.075 0.575,0.075
  region: -0.425,-0.075 -0.575,-0.075 -0.575,-0.125 -0.425,-0.125
  region: -0.425,0.075 -0.425,-0.075 -0.375,-0.075 -0.375,0.075
  rectangle: -0.575,0.075 -0.425,0.125
  region: -0.575,-0.075 -0.575,0.075 -0.625,0.075 -0.625,-0.075
  region: -0.575,0.075 -0.575,-0.075 -0.425,-0.075 -0.425,0.075
  region: 0.575,0.425 0.425,0.425 0.425,0.375 0.575,0.375
  region: 0.575,0.575 0.575,0.425 0.625,0.425 0.625,0.575
  rectangle: 0.425,0.575 0.575,0.625
  region: 0.425,0.425 0.425,0.575 0.375,0.575 0.375,0.425
  region: 0.425,0.575 0.425,0.425 0.575,0.425 0.575,0.575
  region: 0.075,0.425 -0.075,0.425 -0.075,0.375 0.075,0.375
  region: 0.075,0.575 0.075,0.425 0.125,0.425 0.125,0.575
  rectangle: -0.075,0.575 0.075,0.625
  region: -0.075,0.425 -0.075,0.575 -0.125,0.575 -0.125,0.425
  region: -0.075,0.575 -0.075,0.425 0.075,0.425 0.075,0.575
  region: -0.425,0.425 -0.575,0.425 -0.575,0.375 -0.425,0.375
  region: -0.425,0.575 -0.425,0.425 -0.375,0.425 -0.375,0.575
  rectangle: -0.575,0.575 -0.425,0.625
  region: -0.575,0.425 -0.575,0.575 -0.625,0.575 -0.625,0.425
  region: -0.575,0.575 -0.575,0.425 -0.425,0.425 -0.425,0.575
Mechanical 13:
  lines w0.1: -0.755,-0.755 0.755,-0.755 0.755,0.755 -0.755,0.755 -0.755,-0.755
Mechanical 15:
  lines w0.05: -0.855,-0.855 0.855,-0.855 0.855,0.855 -0.855,0.855 -0.855,-0.855
  lines w0.1: -0.5,0 0.5,0 ; 0,-0.5 0,0.5
3D body: height 0.68, standoff 0, extent -0.755,-0.755 0.755,0.755

## TLA08JQA [mm] "Micro SMD, 8-Leads, Body 1.87x1.72mm, Pitch 0.5mm, NSC Recommended"
height 0.68
pads (8):
  round 0.265 smd paste-0.132 mask+0.05: A1(-0.5,0.5) A2(0,0.5) A3(0.5,0.5) B1(-0.5,0) B3(0.5,0) C1(-0.5,-0.5) C2(0,-0.5) C3(0.5,-0.5)
Top Overlay:
  circle w0.1: c-0.965,1.04 r0.05
Top Paste:
  circle w0.05: c-0.575,0.425 r0.025
  circle w0.05: c-0.425,0.575 r0.025
  circle w0.05: c-0.425,0.425 r0.025
  circle w0.05: c-0.575,0.575 r0.025
  circle w0.05: c-0.075,0.425 r0.025
  circle w0.05: c0.075,0.575 r0.025
  circle w0.05: c0.075,0.425 r0.025
  circle w0.05: c-0.075,0.575 r0.025
  circle w0.05: c0.425,0.425 r0.025
  circle w0.05: c0.575,0.575 r0.025
  circle w0.05: c0.575,0.425 r0.025
  circle w0.05: c0.425,0.575 r0.025
  circle w0.05: c-0.575,-0.075 r0.025
  circle w0.05: c-0.425,0.075 r0.025
  circle w0.05: c-0.425,-0.075 r0.025
  circle w0.05: c-0.575,0.075 r0.025
  circle w0.05: c0.425,-0.075 r0.025
  circle w0.05: c0.575,0.075 r0.025
  circle w0.05: c0.575,-0.075 r0.025
  circle w0.05: c0.425,0.075 r0.025
  circle w0.05: c-0.575,-0.575 r0.025
  circle w0.05: c-0.425,-0.425 r0.025
  circle w0.05: c-0.425,-0.575 r0.025
  circle w0.05: c-0.575,-0.425 r0.025
  circle w0.05: c-0.075,-0.575 r0.025
  circle w0.05: c0.075,-0.425 r0.025
  circle w0.05: c0.075,-0.575 r0.025
  circle w0.05: c-0.075,-0.425 r0.025
  circle w0.05: c0.425,-0.575 r0.025
  circle w0.05: c0.575,-0.425 r0.025
  circle w0.05: c0.575,-0.575 r0.025
  circle w0.05: c0.425,-0.425 r0.025
  region: -0.575,0.575 -0.575,0.425 -0.425,0.425 -0.425,0.575
  region: -0.575,0.425 -0.575,0.575 -0.625,0.575 -0.625,0.425
  rectangle: -0.575,0.575 -0.425,0.625
  region: -0.425,0.575 -0.425,0.425 -0.375,0.425 -0.375,0.575
  region: -0.425,0.425 -0.575,0.425 -0.575,0.375 -0.425,0.375
  region: -0.075,0.575 -0.075,0.425 0.075,0.425 0.075,0.575
  region: -0.075,0.425 -0.075,0.575 -0.125,0.575 -0.125,0.425
  rectangle: -0.075,0.575 0.075,0.625
  region: 0.075,0.575 0.075,0.425 0.125,0.425 0.125,0.575
  region: 0.075,0.425 -0.075,0.425 -0.075,0.375 0.075,0.375
  region: 0.425,0.575 0.425,0.425 0.575,0.425 0.575,0.575
  region: 0.425,0.425 0.425,0.575 0.375,0.575 0.375,0.425
  rectangle: 0.425,0.575 0.575,0.625
  region: 0.575,0.575 0.575,0.425 0.625,0.425 0.625,0.575
  region: 0.575,0.425 0.425,0.425 0.425,0.375 0.575,0.375
  region: -0.575,0.075 -0.575,-0.075 -0.425,-0.075 -0.425,0.075
  region: -0.575,-0.075 -0.575,0.075 -0.625,0.075 -0.625,-0.075
  rectangle: -0.575,0.075 -0.425,0.125
  region: -0.425,0.075 -0.425,-0.075 -0.375,-0.075 -0.375,0.075
  region: -0.425,-0.075 -0.575,-0.075 -0.575,-0.125 -0.425,-0.125
  region: 0.425,0.075 0.425,-0.075 0.575,-0.075 0.575,0.075
  region: 0.425,-0.075 0.425,0.075 0.375,0.075 0.375,-0.075
  rectangle: 0.425,0.075 0.575,0.125
  region: 0.575,0.075 0.575,-0.075 0.625,-0.075 0.625,0.075
  region: 0.575,-0.075 0.425,-0.075 0.425,-0.125 0.575,-0.125
  region: -0.575,-0.425 -0.575,-0.575 -0.425,-0.575 -0.425,-0.425
  region: -0.575,-0.575 -0.575,-0.425 -0.625,-0.425 -0.625,-0.575
  rectangle: -0.575,-0.425 -0.425,-0.375
  region: -0.425,-0.425 -0.425,-0.575 -0.375,-0.575 -0.375,-0.425
  region: -0.425,-0.575 -0.575,-0.575 -0.575,-0.625 -0.425,-0.625
  region: -0.075,-0.425 -0.075,-0.575 0.075,-0.575 0.075,-0.425
  region: -0.075,-0.575 -0.075,-0.425 -0.125,-0.425 -0.125,-0.575
  rectangle: -0.075,-0.425 0.075,-0.375
  region: 0.075,-0.425 0.075,-0.575 0.125,-0.575 0.125,-0.425
  region: 0.075,-0.575 -0.075,-0.575 -0.075,-0.625 0.075,-0.625
  region: 0.425,-0.425 0.425,-0.575 0.575,-0.575 0.575,-0.425
  region: 0.425,-0.575 0.425,-0.425 0.375,-0.425 0.375,-0.575
  rectangle: 0.425,-0.425 0.575,-0.375
  region: 0.575,-0.425 0.575,-0.575 0.625,-0.575 0.625,-0.425
  region: 0.575,-0.575 0.425,-0.575 0.425,-0.625 0.575,-0.625
Mechanical 13:
  lines w0.1: -0.86,-0.935 -0.86,0.935 0.86,0.935 0.86,-0.935 -0.86,-0.935
Mechanical 15:
  lines w0.05: -0.96,-1.035 -0.96,1.035 0.96,1.035 0.96,-1.035 -0.96,-1.035
  lines w0.1: -0.5,0 0.5,0 ; 0,-0.5 0,0.5
3D body: height 0.68, standoff 0, extent -0.86,-0.935 0.86,0.935

## TLP10BBA [mm] "Micro SMD, 10-Leads, Body 2.02x1.54mm, Pitch 0.5mm, NSC Recommended"
height 0.68
pads (10):
  round 0.265 smd paste-0.132 mask+0.05: A1(-0.5,0.75) A2(0,0.75) A3(0.5,0.75) B1(-0.5,0.25) B3(0.5,0.25) C1(-0.5,-0.25) C3(0.5,-0.25) D1(-0.5,-0.75) D2(0,-0.75) D3(0.5,-0.75)
Top Overlay:
  circle w0.1: c-0.875,1.115 r0.05
Top Paste:
  circle w0.05: c-0.575,0.675 r0.025
  circle w0.05: c-0.425,0.825 r0.025
  circle w0.05: c-0.425,0.675 r0.025
  circle w0.05: c-0.575,0.825 r0.025
  circle w0.05: c-0.075,0.675 r0.025
  circle w0.05: c0.075,0.825 r0.025
  circle w0.05: c0.075,0.675 r0.025
  circle w0.05: c-0.075,0.825 r0.025
  circle w0.05: c0.425,0.675 r0.025
  circle w0.05: c0.575,0.825 r0.025
  circle w0.05: c0.575,0.675 r0.025
  circle w0.05: c0.425,0.825 r0.025
  circle w0.05: c-0.575,0.175 r0.025
  circle w0.05: c-0.425,0.325 r0.025
  circle w0.05: c-0.425,0.175 r0.025
  circle w0.05: c-0.575,0.325 r0.025
  circle w0.05: c0.425,0.175 r0.025
  circle w0.05: c0.575,0.325 r0.025
  circle w0.05: c0.575,0.175 r0.025
  circle w0.05: c0.425,0.325 r0.025
  circle w0.05: c-0.575,-0.325 r0.025
  circle w0.05: c-0.425,-0.175 r0.025
  circle w0.05: c-0.425,-0.325 r0.025
  circle w0.05: c-0.575,-0.175 r0.025
  circle w0.05: c0.425,-0.325 r0.025
  circle w0.05: c0.575,-0.175 r0.025
  circle w0.05: c0.575,-0.325 r0.025
  circle w0.05: c0.425,-0.175 r0.025
  circle w0.05: c-0.575,-0.825 r0.025
  circle w0.05: c-0.425,-0.675 r0.025
  circle w0.05: c-0.425,-0.825 r0.025
  circle w0.05: c-0.575,-0.675 r0.025
  circle w0.05: c-0.075,-0.825 r0.025
  circle w0.05: c0.075,-0.675 r0.025
  circle w0.05: c0.075,-0.825 r0.025
  circle w0.05: c-0.075,-0.675 r0.025
  circle w0.05: c0.425,-0.825 r0.025
  circle w0.05: c0.575,-0.675 r0.025
  circle w0.05: c0.575,-0.825 r0.025
  circle w0.05: c0.425,-0.675 r0.025
  region: -0.575,0.825 -0.575,0.675 -0.425,0.675 -0.425,0.825
  region: -0.575,0.675 -0.575,0.825 -0.625,0.825 -0.625,0.675
  rectangle: -0.575,0.825 -0.425,0.875
  region: -0.425,0.825 -0.425,0.675 -0.375,0.675 -0.375,0.825
  region: -0.425,0.675 -0.575,0.675 -0.575,0.625 -0.425,0.625
  region: -0.075,0.825 -0.075,0.675 0.075,0.675 0.075,0.825
  region: -0.075,0.675 -0.075,0.825 -0.125,0.825 -0.125,0.675
  rectangle: -0.075,0.825 0.075,0.875
  region: 0.075,0.825 0.075,0.675 0.125,0.675 0.125,0.825
  region: 0.075,0.675 -0.075,0.675 -0.075,0.625 0.075,0.625
  region: 0.425,0.825 0.425,0.675 0.575,0.675 0.575,0.825
  region: 0.425,0.675 0.425,0.825 0.375,0.825 0.375,0.675
  rectangle: 0.425,0.825 0.575,0.875
  region: 0.575,0.825 0.575,0.675 0.625,0.675 0.625,0.825
  region: 0.575,0.675 0.425,0.675 0.425,0.625 0.575,0.625
  region: -0.575,0.325 -0.575,0.175 -0.425,0.175 -0.425,0.325
  region: -0.575,0.175 -0.575,0.325 -0.625,0.325 -0.625,0.175
  rectangle: -0.575,0.325 -0.425,0.375
  region: -0.425,0.325 -0.425,0.175 -0.375,0.175 -0.375,0.325
  region: -0.425,0.175 -0.575,0.175 -0.575,0.125 -0.425,0.125
  region: 0.425,0.325 0.425,0.175 0.575,0.175 0.575,0.325
  region: 0.425,0.175 0.425,0.325 0.375,0.325 0.375,0.175
  rectangle: 0.425,0.325 0.575,0.375
  region: 0.575,0.325 0.575,0.175 0.625,0.175 0.625,0.325
  region: 0.575,0.175 0.425,0.175 0.425,0.125 0.575,0.125
  region: -0.575,-0.175 -0.575,-0.325 -0.425,-0.325 -0.425,-0.175
  region: -0.575,-0.325 -0.575,-0.175 -0.625,-0.175 -0.625,-0.325
  rectangle: -0.575,-0.175 -0.425,-0.125
  region: -0.425,-0.175 -0.425,-0.325 -0.375,-0.325 -0.375,-0.175
  region: -0.425,-0.325 -0.575,-0.325 -0.575,-0.375 -0.425,-0.375
  region: 0.425,-0.175 0.425,-0.325 0.575,-0.325 0.575,-0.175
  region: 0.425,-0.325 0.425,-0.175 0.375,-0.175 0.375,-0.325
  rectangle: 0.425,-0.175 0.575,-0.125
  region: 0.575,-0.175 0.575,-0.325 0.625,-0.325 0.625,-0.175
  region: 0.575,-0.325 0.425,-0.325 0.425,-0.375 0.575,-0.375
  region: -0.575,-0.675 -0.575,-0.825 -0.425,-0.825 -0.425,-0.675
  region: -0.575,-0.825 -0.575,-0.675 -0.625,-0.675 -0.625,-0.825
  rectangle: -0.575,-0.675 -0.425,-0.625
  region: -0.425,-0.675 -0.425,-0.825 -0.375,-0.825 -0.375,-0.675
  region: -0.425,-0.825 -0.575,-0.825 -0.575,-0.875 -0.425,-0.875
  region: -0.075,-0.675 -0.075,-0.825 0.075,-0.825 0.075,-0.675
  region: -0.075,-0.825 -0.075,-0.675 -0.125,-0.675 -0.125,-0.825
  rectangle: -0.075,-0.675 0.075,-0.625
  region: 0.075,-0.675 0.075,-0.825 0.125,-0.825 0.125,-0.675
  region: 0.075,-0.825 -0.075,-0.825 -0.075,-0.875 0.075,-0.875
  region: 0.425,-0.675 0.425,-0.825 0.575,-0.825 0.575,-0.675
  region: 0.425,-0.825 0.425,-0.675 0.375,-0.675 0.375,-0.825
  rectangle: 0.425,-0.675 0.575,-0.625
  region: 0.575,-0.675 0.575,-0.825 0.625,-0.825 0.625,-0.675
  region: 0.575,-0.825 0.425,-0.825 0.425,-0.875 0.575,-0.875
Mechanical 13:
  lines w0.1: -0.77,-1.01 -0.77,1.01 0.77,1.01 0.77,-1.01 -0.77,-1.01
Mechanical 15:
  lines w0.05: -0.87,-1.11 -0.87,1.11 0.87,1.11 0.87,-1.11 -0.87,-1.11
  lines w0.1: -0.5,0 0.5,0 ; 0,-0.5 0,0.5
3D body: height 0.68, standoff 0, extent -0.77,-1.01 0.77,1.01

## TMD08CCA [mm] "Micro SMD, 8-Leads, Body 1.22x1.22mm, Pitch 0.4mm, NSC Recommended"
height 0.68
pads (8):
  round 0.225 smd paste-0.112 mask+0.05: A1(-0.4,0.4) A2(0,0.4) A3(0.4,0.4) B1(-0.4,0) B3(0.4,0) C1(-0.4,-0.4) C2(0,-0.4) C3(0.4,-0.4)
Top Overlay:
  circle w0.1: c-0.715,0.715 r0.05
Top Paste:
  circle w0.05: c0.475,-0.475 r0.025
  circle w0.05: c0.325,-0.325 r0.025
  circle w0.05: c0.325,-0.475 r0.025
  circle w0.05: c0.475,-0.325 r0.025
  circle w0.05: c0.075,-0.475 r0.025
  circle w0.05: c-0.075,-0.325 r0.025
  circle w0.05: c-0.075,-0.475 r0.025
  circle w0.05: c0.075,-0.325 r0.025
  circle w0.05: c-0.325,-0.475 r0.025
  circle w0.05: c-0.475,-0.325 r0.025
  circle w0.05: c-0.475,-0.475 r0.025
  circle w0.05: c-0.325,-0.325 r0.025
  circle w0.05: c0.475,-0.075 r0.025
  circle w0.05: c0.325,0.075 r0.025
  circle w0.05: c0.325,-0.075 r0.025
  circle w0.05: c0.475,0.075 r0.025
  circle w0.05: c-0.325,-0.075 r0.025
  circle w0.05: c-0.475,0.075 r0.025
  circle w0.05: c-0.475,-0.075 r0.025
  circle w0.05: c-0.325,0.075 r0.025
  circle w0.05: c0.475,0.325 r0.025
  circle w0.05: c0.325,0.475 r0.025
  circle w0.05: c0.325,0.325 r0.025
  circle w0.05: c0.475,0.475 r0.025
  circle w0.05: c0.075,0.325 r0.025
  circle w0.05: c-0.075,0.475 r0.025
  circle w0.05: c-0.075,0.325 r0.025
  circle w0.05: c0.075,0.475 r0.025
  circle w0.05: c-0.325,0.325 r0.025
  circle w0.05: c-0.475,0.475 r0.025
  circle w0.05: c-0.475,0.325 r0.025
  circle w0.05: c-0.325,0.475 r0.025
  region: 0.325,-0.325 0.325,-0.475 0.475,-0.475 0.475,-0.325
  region: 0.525,-0.475 0.525,-0.325 0.475,-0.325 0.475,-0.475
  region: 0.475,-0.275 0.325,-0.275 0.325,-0.325 0.475,-0.325
  region: 0.275,-0.325 0.275,-0.475 0.325,-0.475 0.325,-0.325
  rectangle: 0.325,-0.525 0.475,-0.475
  region: -0.075,-0.325 -0.075,-0.475 0.075,-0.475 0.075,-0.325
  region: 0.125,-0.475 0.125,-0.325 0.075,-0.325 0.075,-0.475
  region: 0.075,-0.275 -0.075,-0.275 -0.075,-0.325 0.075,-0.325
  region: -0.125,-0.325 -0.125,-0.475 -0.075,-0.475 -0.075,-0.325
  rectangle: -0.075,-0.525 0.075,-0.475
  region: -0.475,-0.325 -0.475,-0.475 -0.325,-0.475 -0.325,-0.325
  region: -0.275,-0.475 -0.275,-0.325 -0.325,-0.325 -0.325,-0.475
  region: -0.325,-0.275 -0.475,-0.275 -0.475,-0.325 -0.325,-0.325
  region: -0.525,-0.325 -0.525,-0.475 -0.475,-0.475 -0.475,-0.325
  rectangle: -0.475,-0.525 -0.325,-0.475
  region: 0.325,0.075 0.325,-0.075 0.475,-0.075 0.475,0.075
  region: 0.525,-0.075 0.525,0.075 0.475,0.075 0.475,-0.075
  region: 0.475,0.125 0.325,0.125 0.325,0.075 0.475,0.075
  region: 0.275,0.075 0.275,-0.075 0.325,-0.075 0.325,0.075
  rectangle: 0.325,-0.125 0.475,-0.075
  region: -0.475,0.075 -0.475,-0.075 -0.325,-0.075 -0.325,0.075
  region: -0.275,-0.075 -0.275,0.075 -0.325,0.075 -0.325,-0.075
  region: -0.325,0.125 -0.475,0.125 -0.475,0.075 -0.325,0.075
  region: -0.525,0.075 -0.525,-0.075 -0.475,-0.075 -0.475,0.075
  rectangle: -0.475,-0.125 -0.325,-0.075
  region: 0.325,0.475 0.325,0.325 0.475,0.325 0.475,0.475
  region: 0.525,0.325 0.525,0.475 0.475,0.475 0.475,0.325
  region: 0.475,0.525 0.325,0.525 0.325,0.475 0.475,0.475
  region: 0.275,0.475 0.275,0.325 0.325,0.325 0.325,0.475
  rectangle: 0.325,0.275 0.475,0.325
  region: -0.075,0.475 -0.075,0.325 0.075,0.325 0.075,0.475
  region: 0.125,0.325 0.125,0.475 0.075,0.475 0.075,0.325
  region: 0.075,0.525 -0.075,0.525 -0.075,0.475 0.075,0.475
  region: -0.125,0.475 -0.125,0.325 -0.075,0.325 -0.075,0.475
  rectangle: -0.075,0.275 0.075,0.325
  region: -0.475,0.475 -0.475,0.325 -0.325,0.325 -0.325,0.475
  region: -0.275,0.325 -0.275,0.475 -0.325,0.475 -0.325,0.325
  region: -0.325,0.525 -0.475,0.525 -0.475,0.475 -0.325,0.475
  region: -0.525,0.475 -0.525,0.325 -0.475,0.325 -0.475,0.475
  rectangle: -0.475,0.275 -0.325,0.325
Mechanical 13:
  lines w0.1: -0.61,-0.61 0.61,-0.61 0.61,0.61 -0.61,0.61 -0.61,-0.61
Mechanical 15:
  lines w0.05: -0.71,-0.71 0.71,-0.71 0.71,0.71 -0.71,0.71 -0.71,-0.71
  lines w0.1: -0.5,0 0.5,0 ; 0,-0.5 0,0.5
3D body: height 0.68, standoff 0, extent -0.61,-0.61 0.61,0.61

## TPA08AAA [mm] "Micro SMD, 8-Leads, Body 1.29x1.29mm, Pitch 0.5mm, NSC Recommended"
height 0.58
pads (8):
  round 0.165 smd paste-0.082 mask+0.05: A1(-0.5,0.5) A2(0,0.5) A3(0.5,0.5) B1(-0.5,0) B3(0.5,0) C1(-0.5,-0.5) C2(0,-0.5) C3(0.5,-0.5)
Top Overlay:
  circle w0.1: c-0.75,0.75 r0.05
Top Paste:
  circle w0.05: c-0.4,0.4 r0.025
  circle w0.05: c-0.6,0.6 r0.025
  circle w0.05: c-0.4,0.6 r0.025
  circle w0.05: c-0.6,0.4 r0.025
  circle w0.05: c0.1,0.4 r0.025
  circle w0.05: c-0.1,0.6 r0.025
  circle w0.05: c0.1,0.6 r0.025
  circle w0.05: c-0.1,0.4 r0.025
  circle w0.05: c0.6,0.4 r0.025
  circle w0.05: c0.4,0.6 r0.025
  circle w0.05: c0.6,0.6 r0.025
  circle w0.05: c0.4,0.4 r0.025
  circle w0.05: c-0.4,-0.1 r0.025
  circle w0.05: c-0.6,0.1 r0.025
  circle w0.05: c-0.4,0.1 r0.025
  circle w0.05: c-0.6,-0.1 r0.025
  circle w0.05: c0.6,-0.1 r0.025
  circle w0.05: c0.4,0.1 r0.025
  circle w0.05: c0.6,0.1 r0.025
  circle w0.05: c0.4,-0.1 r0.025
  circle w0.05: c-0.4,-0.6 r0.025
  circle w0.05: c-0.6,-0.4 r0.025
  circle w0.05: c-0.4,-0.4 r0.025
  circle w0.05: c-0.6,-0.6 r0.025
  circle w0.05: c0.1,-0.6 r0.025
  circle w0.05: c-0.1,-0.4 r0.025
  circle w0.05: c0.1,-0.4 r0.025
  circle w0.05: c-0.1,-0.6 r0.025
  circle w0.05: c0.6,-0.6 r0.025
  circle w0.05: c0.4,-0.4 r0.025
  circle w0.05: c0.6,-0.4 r0.025
  circle w0.05: c0.4,-0.6 r0.025
  region: -0.4,0.6 -0.4,0.4 -0.35,0.4 -0.35,0.6
  region: -0.6,0.4 -0.6,0.6 -0.65,0.6 -0.65,0.4
  rectangle: -0.6,0.6 -0.4,0.65
  rectangle: -0.6,0.4 -0.4,0.6
  region: -0.4,0.4 -0.6,0.4 -0.6,0.35 -0.4,0.35
  region: 0.1,0.6 0.1,0.4 0.15,0.4 0.15,0.6
  region: -0.1,0.4 -0.1,0.6 -0.15,0.6 -0.15,0.4
  rectangle: -0.1,0.6 0.1,0.65
  rectangle: -0.1,0.4 0.1,0.6
  region: 0.1,0.4 -0.1,0.4 -0.1,0.35 0.1,0.35
  region: 0.6,0.6 0.6,0.4 0.65,0.4 0.65,0.6
  region: 0.4,0.4 0.4,0.6 0.35,0.6 0.35,0.4
  rectangle: 0.4,0.6 0.6,0.65
  rectangle: 0.4,0.4 0.6,0.6
  region: 0.6,0.4 0.4,0.4 0.4,0.35 0.6,0.35
  region: -0.4,0.1 -0.4,-0.1 -0.35,-0.1 -0.35,0.1
  region: -0.6,-0.1 -0.6,0.1 -0.65,0.1 -0.65,-0.1
  rectangle: -0.6,0.1 -0.4,0.15
  rectangle: -0.6,-0.1 -0.4,0.1
  region: -0.4,-0.1 -0.6,-0.1 -0.6,-0.15 -0.4,-0.15
  region: 0.6,0.1 0.6,-0.1 0.65,-0.1 0.65,0.1
  region: 0.4,-0.1 0.4,0.1 0.35,0.1 0.35,-0.1
  rectangle: 0.4,0.1 0.6,0.15
  rectangle: 0.4,-0.1 0.6,0.1
  region: 0.6,-0.1 0.4,-0.1 0.4,-0.15 0.6,-0.15
  region: -0.4,-0.4 -0.4,-0.6 -0.35,-0.6 -0.35,-0.4
  region: -0.6,-0.6 -0.6,-0.4 -0.65,-0.4 -0.65,-0.6
  rectangle: -0.6,-0.4 -0.4,-0.35
  rectangle: -0.6,-0.6 -0.4,-0.4
  region: -0.4,-0.6 -0.6,-0.6 -0.6,-0.65 -0.4,-0.65
  region: 0.1,-0.4 0.1,-0.6 0.15,-0.6 0.15,-0.4
  region: -0.1,-0.6 -0.1,-0.4 -0.15,-0.4 -0.15,-0.6
  rectangle: -0.1,-0.4 0.1,-0.35
  rectangle: -0.1,-0.6 0.1,-0.4
  region: 0.1,-0.6 -0.1,-0.6 -0.1,-0.65 0.1,-0.65
  region: 0.6,-0.4 0.6,-0.6 0.65,-0.6 0.65,-0.4
  region: 0.4,-0.6 0.4,-0.4 0.35,-0.4 0.35,-0.6
  rectangle: 0.4,-0.4 0.6,-0.35
  rectangle: 0.4,-0.6 0.6,-0.4
  region: 0.6,-0.6 0.4,-0.6 0.4,-0.65 0.6,-0.65
Mechanical 13:
  lines w0.1: -0.645,-0.645 -0.645,0.645 0.645,0.645 0.645,-0.645 -0.645,-0.645
Mechanical 15:
  lines w0.05: -0.745,-0.745 -0.745,0.745 0.745,0.745 0.745,-0.745 -0.745,-0.745
  lines w0.1: -0.5,0 0.5,0 ; 0,-0.5 0,0.5
3D body: height 0.58, standoff 0, extent -0.645,-0.645 0.645,0.645